# Altium schematic symbol library LT1761-BYP.Schlib: 1 symbol
Pins are listed as number, name and electrical type; pins without a type are passive.

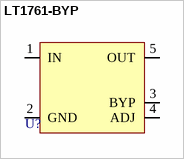
[diagram p0: symbol LT1761-BYP]

## LT1761-BYP
designator U?
pins: 1 IN, 2 GND, 3 BYP, 4 ADJ, 5 OUT